# Altium schematic symbol library NC7SZ14P5X.SchLib: 1 symbol
Pins are listed as number, name and electrical type; pins without a type are passive.

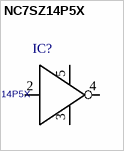
[diagram p0: symbol NC7SZ14P5X]

## NC7SZ14P5X
designator IC?
ID: NC7SZ14P5X; PDF: http://www.fairchildsemi.com/datasheets/NC/NC7SZ14.pdf; BUY_LINK: http://www.digikey.com/product-detail/en/NC7SZ14P5X/NC7SZ14P5XCT-ND/1626267; PRICE: 0.34000
footprint SC70-5
pins: 2 in, 3 gnd, 4 out, 5 vcc